# Altium footprint library PCB - CONNECTOR - TE - TE 1-1734248-5.PcbLib: 1 footprints
Each footprint in its own frame and in the unit in brackets; x right, y up, seen from the top. Pads: shape width x height; smd on the part's side, far side on the other; paste and mask are expansions set on the pad; w line width, h text height; cw(c..) or ccw(c..) is an arc to the next point about the centre after c.
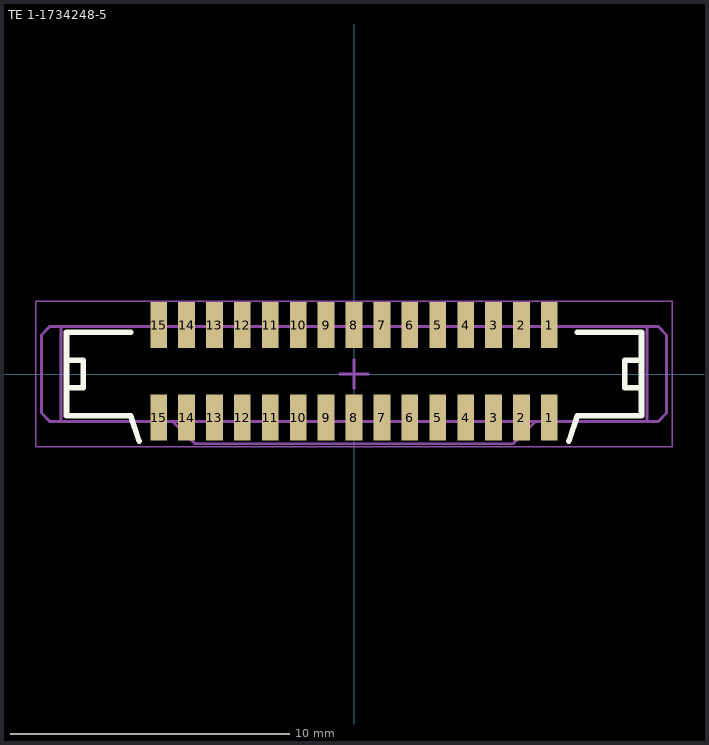
[diagram p0: the footprint, top view; thin cyan lines are the x and y axes]

## TE 1-1734248-5 [mm] "FPC Connectors, .039 in [1 mm] Centerline, Zero Insertion Force (ZIF), Vertical, Surface Mount, Stuffer Actuator, Gold Flash, 15 Position"
height 13.97
pads (30):
  rect 0.6x1.65 smd: 1(7,-1.563) 1(7,1.75) 2(6,-1.563) 2(6,1.75) 3(5,-1.563) 3(5,1.75) 4(4,-1.563) 4(4,1.75) 5(3,-1.563) 5(3,1.75) 6(2,-1.563) 6(2,1.75) 7(1,-1.563) 7(1,1.75) 8(0,-1.563) 8(0,1.75) 9(-1,-1.563) 9(-1,1.75) 10(-2,-1.563) 10(-2,1.75) 11(-3,-1.563) 11(-3,1.75) 12(-4,-1.563) 12(-4,1.75) 13(-5,-1.563) 13(-5,1.75) 14(-6,-1.563) 14(-6,1.75) 15(-7,-1.563) 15(-7,1.75)
Top Overlay:
  lines w0.2: -10.3,-0.5 -9.7,-0.5 -9.7,0.5 -10.3,0.5 ; -8,1.5 -10.3,1.5 -10.3,-1.5 -8,-1.5 -7.7,-2.4 ; 7.7,-2.4 8,-1.5 10.3,-1.5 10.3,1.5 8,1.5 ; 10.3,-0.5 9.7,-0.5 9.7,0.5 10.3,0.5
Mechanical 13:
  lines w0.1: -6.5,-1.7 -5.7,-2.5 5.7,-2.5 6.5,-1.7 ; -10.5,-1.7 -10.9,-1.7 -11.2,-1.4 -11.2,1.4 -10.9,1.7 -10.5,1.7 ; -10.5,-1.7 10.5,-1.7 ; -10.5,-1.7 -10.5,1.7 ; -10.5,1.7 10.5,1.7 ; 10.5,-1.7 10.9,-1.7 11.2,-1.4 11.2,1.4 10.9,1.7 10.5,1.7 ; 10.5,-1.7 10.5,1.7
Mechanical 15 (Mech15):
  lines w0.05: -11.4,-2.6 11.4,-2.6 11.4,2.6 -11.4,2.6 -11.4,-2.6
  lines w0.1: -0.508,0 0,0 ; 0,-0.508 0,0 ; 0,0.508 0,0 ; 0.508,0 0,0
3D body "TE 1-1734248-5.step": height 5.68, standoff 0, extent -11.2,-2.45 11.2,2.4